# Altium schematic symbol library 10018784-10200TLF.SchLib: 1 symbol
Pins are listed as number, name and electrical type; pins without a type are passive.

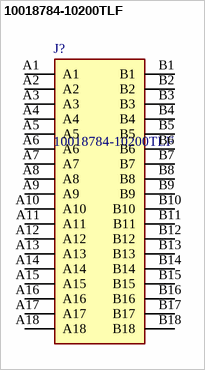
[diagram p0: symbol 10018784-10200TLF]

## 10018784-10200TLF
designator J?
PCI Express / PCI Connectors 36P CARD EDGE ASSM VERTICAL; Manufacturer_Name: Amphenol; Geometry.Height: 11.25mm; Mouser Part Number: 649-1001878410200TLF; Mouser Price/Stock: https://www.mouser.co.uk/ProductDetail/Amphenol-FCI/10018784-10200TLF?qs=V%252BXmToedwohpuEZkyOHzaQ%3D%3D; Manufacturer_Part_Number: 10018784-10200TLF; Datasheet Link: https://www.mouser.in/datasheet/2/18/10018784-1228695.pdf
footprint 1001878410200TLF
pins: A1, A2, A3, A4, A5, A6, A7, A8, A9, A10, A11, A12, A13, A14, A15, A16, A17, A18, B1, B2, B3, B4, B5, B6, B7, B8, B9, B10, B11, B12, B13, B14, B15, B16, B17, B18